# EAGLE library part CD4021BPWR (library 5G8_fpv)
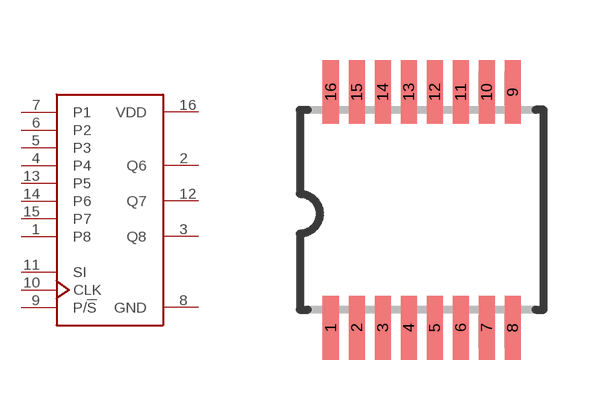
[diagram p4: symbol with the pads of TSSOP16; footprint TSSOP16]

Designator prefix -

## CD4021BPWR  [TSSOP16]
1  P8
2  Q6
3  Q8
4  P4
5  P3
6  P2
7  P1
8  GND
9  P/!S
10  CLK
11  SI
12  Q7
13  P5
14  P6
15  P7
16  VDD

## Footprint TSSOP16 (pad centres in mm)
TSOP16 thin small outline package
smd 0.4 x 1.6: 1 -2.225,-2.85; 2 -1.575,-2.85; 3 -0.925,-2.85; 4 -0.275,-2.85; 5 0.375,-2.85; 6 1.025,-2.85; 7 1.675,-2.85; 8 2.325,-2.85; 9 2.325,3.05; 10 1.675,3.05; 11 1.025,3.05; 12 0.375,3.05; 13 -0.275,3.05; 14 -0.925,3.05; 15 -1.575,3.05; 16 -2.225,3.05